# EAGLE library part CON-HIROSE_FH12-10S-0.5S (library motoko_5_0)
0.5mm Pitch Connectors For FPC/FFC Source: Data sheet <http://www.hirose.co.jp/cataloge_hp/e58605370.pdf>
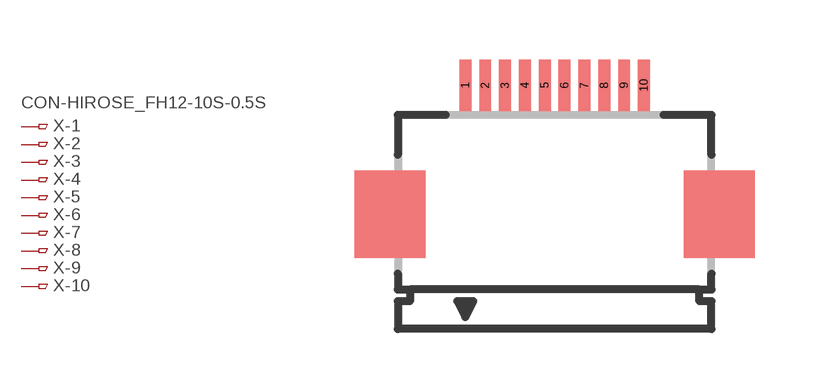
[diagram p2: symbol with the pads of CON-HIROSE_FH12-10S-0.5SH; footprint CON-HIROSE_FH12-10S-0.5SH]

Designator prefix X; gates -1=CON-HIROSE_PINV -2=CON-HIROSE_PIN -3=CON-HIROSE_PIN -4=CON-HIROSE_PIN -5=CON-HIROSE_PIN -6=CON-HIROSE_PIN -7=CON-HIROSE_PIN -8=CON-HIROSE_PIN -9=CON-HIROSE_PIN -10=CON-HIROSE_PIN

## CON-HIROSE_FH12-10S-0.5SH (MPN: FH12-10S-0.5SH(55); OC_FARNELL: 1324540; OC_NEWARK: 34M6152)  [CON-HIROSE_FH12-10S-0.5SH]
1  -1:1  pas
2  -2:1  pas
3  -3:1  pas
4  -4:1  pas
5  -5:1  pas
6  -6:1  pas
7  -7:1  pas
8  -8:1  pas
9  -9:1  pas
10  -10:1  pas

## Footprint CON-HIROSE_FH12-10S-0.5SH (pad centres in mm)
0.5mm Pitch Connectors For FPC/FFC Source: Data sheet <http://www.hirose.co.jp/cataloge_hp/e58605370.pdf>
smd 0.3 x 1.3: 1 -2.25,3.25; 2 -1.75,3.25; 3 -1.25,3.25; 4 -0.75,3.25; 5 -0.25,3.25; 6 0.25,3.25; 7 0.75,3.25; 8 1.25,3.25; 9 1.75,3.25; 10 2.25,3.25